# Altium schematic symbol library LTC6702.Schlib: 1 symbol
Pins are listed as number, name and electrical type; pins without a type are passive.

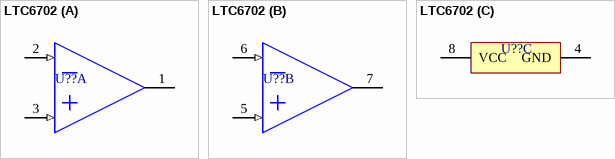
[diagram p0: symbol LTC6702]

## LTC6702
designator U??
part A pins: 1, 2 (in), 3 (in)
part B pins: 5 (in), 6 (in), 7
part C pins: 4 GND (power), 8 VCC (power)